# Altium footprint library RobotPcb.PcbLib: 30 footprints (part 2 of 2)
Each footprint in its own frame and in the unit in brackets; x right, y up, seen from the top. Pads: shape width x height; smd on the part's side, far side on the other; paste and mask are expansions set on the pad; w line width, h text height; cw(c..) or ccw(c..) is an arc to the next point about the centre after c.
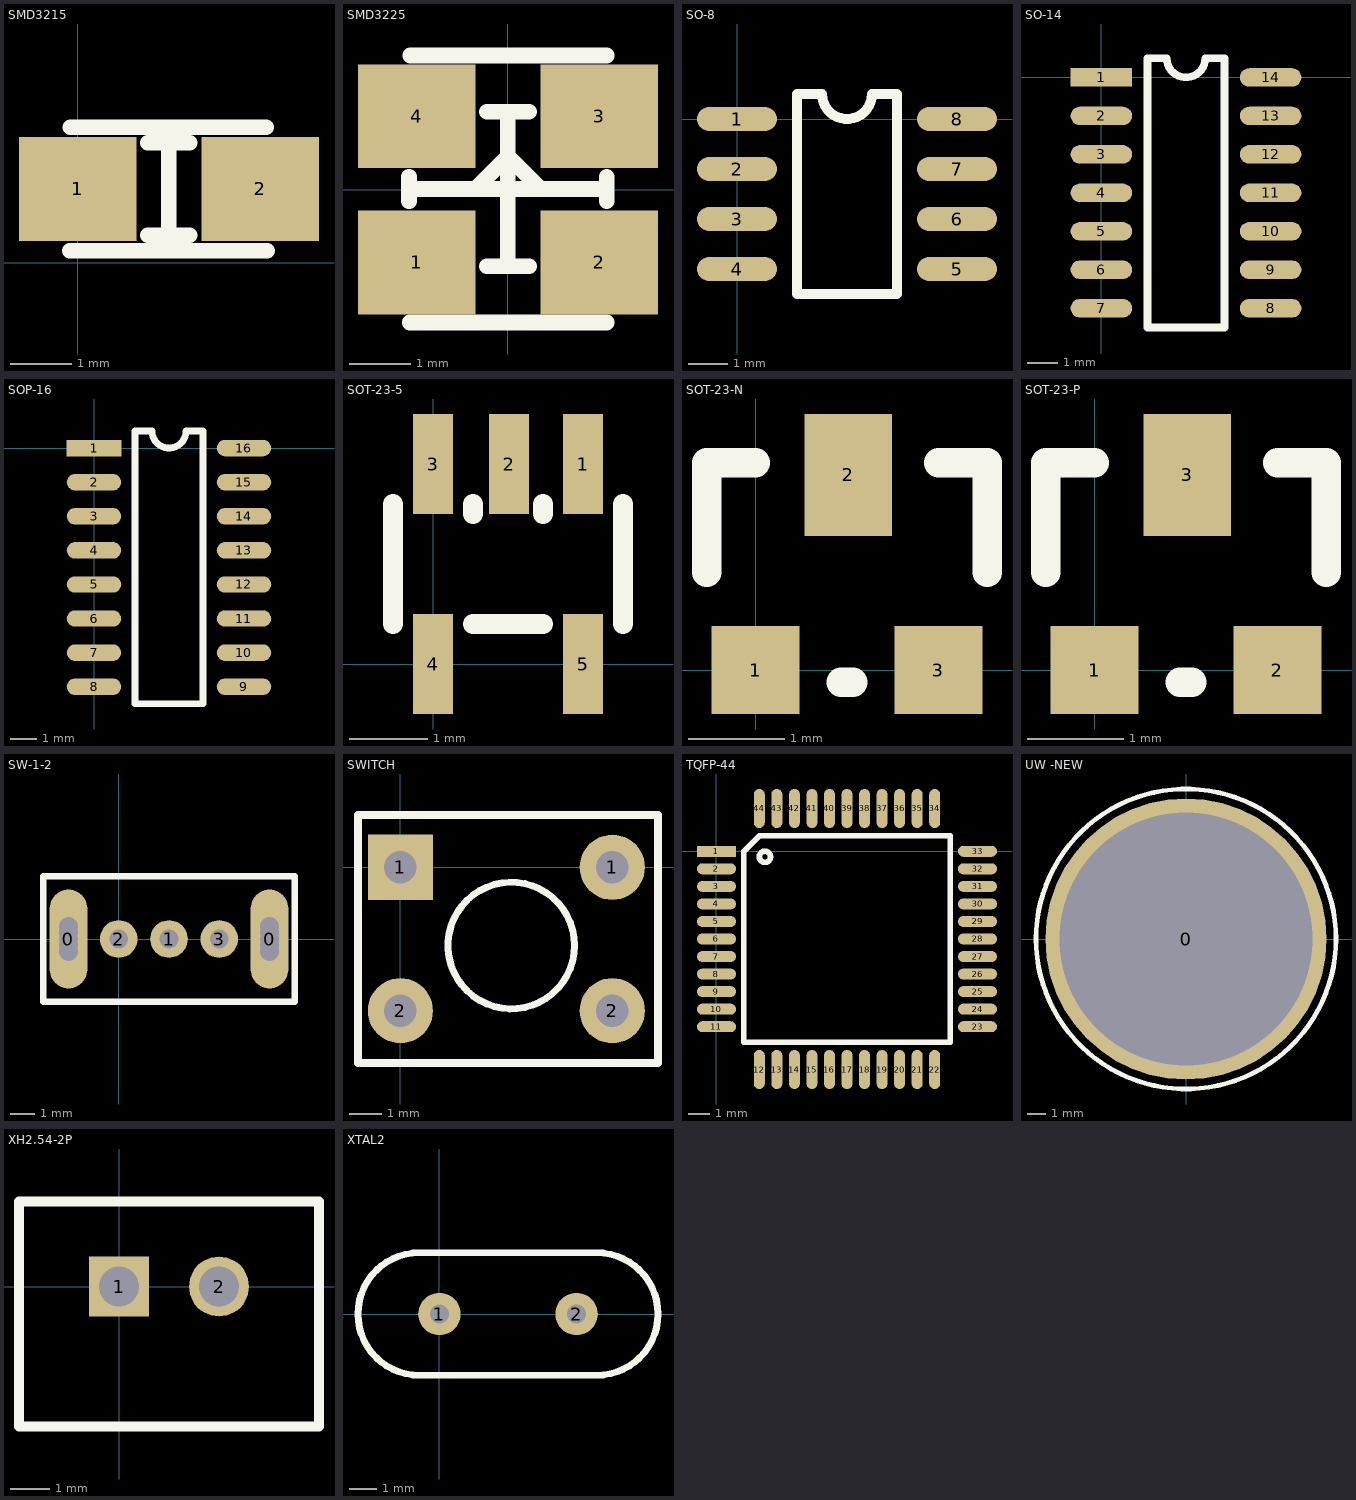
[diagram p1: the footprints below, top view; thin cyan lines are the x and y axes]

## SMD3215 [mm]
pads (2):
  rect 1.905x1.676 smd: 1(0,1.19) 2(2.95,1.19)
Top Overlay:
  lines w0.254: -0.13,0.19 3.06,0.19 ; -0.12,2.19 3.05,2.19 ; 1.13,1.94 1.47,1.94 ; 1.133,0.44 1.473,0.44 ; 1.47,1.189 1.47,1.94 ; 1.473,1.19 1.473,0.44 ; 1.81,1.94 1.47,1.94 ; 1.813,0.44 1.473,0.44 ; 1.473,1.719 1.473,1.719

## SMD3225 [mil]
pads (4):
  rect 75x66 smd: 1(-57.98,-46.42) 2(58.12,-46.42) 3(58.12,46.78) 4(-57.98,46.78)
Top Overlay:
  lines w10: -62.99,-7.48 -62.99,0.39 ; -62.99,8.27 -62.99,0.39 ; -62.6,-84.65 62.99,-84.65 ; -20.87,0.39 0,21.26 ; -13.39,-48.82 0,-48.82 ; -13.39,49.61 0,49.61 ; -11.81,0.39 62.99,0.39 ; 0,12.2 0,-48.82 ; 13.39,-48.82 0,-48.82 ; 13.39,49.61 0,49.61 ; 20.87,0.39 0,21.26 ; 62.6,85.43 -62.2,85.43 62.99,85.43 ; 62.99,-7.48 62.99,0.39 ; 62.99,8.27 62.99,0.39 ; -62.99,0.39 0,0.39 0,49.61 ; 0,21.26 0,21.26

## SO-8 [mil]
pads (8):
  oval 80x24 smd: 1(0,0) 2(0,-50) 3(0,-100) 4(0,-150) 5(220,-150) 6(220,-100) 7(220,-50) 8(220,0)
Top Overlay:
  lines w10: 60,-175 60,25 85,25 ccw(c110,25) 135,25 160,25 160,-175 60,-175

## SO-14 [mil]
pads (14):
  rect 80x24 smd: 1(0,0)
  oval 80x24 smd: 2(0,-50) 3(0,-100) 4(0,-150) 5(0,-200) 6(0,-250) 7(0,-300) 8(220,-300) 9(220,-250) 10(220,-200) 11(220,-150) 12(220,-100) 13(220,-50) 14(220,0)
Top Overlay:
  lines w10: 60,-325 160,-325 160,25 135,25 cw(c110,25) 85,25 60,25 60,-325

## SOP-16 [mil]
pads (16):
  rect 80x24 smd: 1(0,0)
  oval 80x24 smd: 2(0,-50) 3(0,-100) 4(0,-150) 5(0,-200) 6(0,-250) 7(0,-300) 8(0,-350) 9(220,-350) 10(220,-300) 11(220,-250) 12(220,-200) 13(220,-150) 14(220,-100) 15(220,-50) 16(220,0)
Top Overlay:
  lines w10: 60,-375 60,25 85,25 ccw(c110,25) 135,25 160,25 160,-375 60,-375

## SOT-23-5 [mil]
pads (5):
  rect 20x50 smd: 1(75,100) 2(38,100) 3(0,100) 4(0,0) 5(75,0)
Top Overlay:
  lines w10: -20,20 -20,80 ; 20,20 55,20 ; 20,75 20,80 ; 55,75 55,80 ; 95,20 95,80

## SOT-23-N [mil]
pads (3):
  rect 36x36 smd: 1(0,0) 3(75,0)
  rect 36x50 smd: 2(38,80)
Top Overlay:
  lines w12: -20,40 -20,85 0,85 ; 35,-5 40,-5 ; 75,85 95,85 95,40

## SOT-23-P [mil]
pads (3):
  rect 36x36 smd: 1(0,0) 2(75,0)
  rect 36x50 smd: 3(38,80)
Top Overlay:
  lines w12: -20,40 -20,85 0,85 ; 35,-5 40,-5 ; 75,85 95,85 95,40

## SW-1-2 [mil]
pads (5):
  oval 60x157.48 hole 30: 0(-80,0) 0(240,0)
  round 60 hole 30: 1(80,0) 2(0,0) 3(160,0)
via -80,-10 diameter 30 hole 30
via -80,10 diameter 30 hole 30
via -80,-20 diameter 30 hole 30
via -80,20 diameter 30 hole 30
via 240,-10 diameter 30 hole 30
via 240,10 diameter 30 hole 30
via 240,-20 diameter 30 hole 30
via 240,20 diameter 30 hole 30
Top Overlay:
  lines w10: -120,-100 -120,100 280,100 280,-100 -120,-100

## SWITCH [mm]
pads (4):
  rect 2x2 hole 1: 1(0,0)
  round 2 hole 1: 1(6.5,0) 2(0,-4.4) 2(6.5,-4.4)
Top Overlay:
  circle w0.212: c3.4,-2.4 r1.942
  lines w0.254: -1.3,-6 -1.3,1.6 7.9,1.6 7.9,-6 -1.2,-6

## TQFP-44 [mm]
pads (44):
  rect 1.778x0.5 smd: 1(0,0)
  oval 1.778x0.5 smd: 2(0,-0.8) 3(0,-1.6) 4(0,-2.4) 5(0,-3.2) 6(0,-4) 7(0,-4.8) 8(0,-5.6) 9(0,-6.4) 10(0,-7.2) 11(0,-8) 23(11.9,-8) 24(11.9,-7.2) 25(11.9,-6.4) 26(11.9,-5.6) 27(11.9,-4.8) 28(11.9,-4) 29(11.9,-3.2) 30(11.9,-2.4) 31(11.9,-1.6) 32(11.9,-0.8) 33(11.9,0)
  oval 0.5x1.778 smd: 12(1.95,-9.95) 13(2.75,-9.95) 14(3.55,-9.95) 15(4.35,-9.95) 16(5.15,-9.95) 17(5.95,-9.95) 18(6.75,-9.95) 19(7.55,-9.95) 20(8.35,-9.95) 21(9.15,-9.95) 22(9.95,-9.95) 34(9.95,1.95) 35(9.15,1.95) 36(8.35,1.95) 37(7.55,1.95) 38(6.75,1.95) 39(5.95,1.95) 40(5.15,1.95) 41(4.35,1.95) 42(3.55,1.95) 43(2.75,1.95) 44(1.95,1.95)
Top Overlay:
  circle w0.254: c2.209,-0.254 r0.255
  lines w0.25: 1.25,-8.7 10.65,-8.7 10.65,0.7
  lines w0.254: 1.25,-8.7 1.25,0 1.95,0.7 10.65,0.7

## UW -NEW [mm]
pads (1):
  round 15 hole 13.5: 0(0,0)
Top Overlay:
  circle w0.254: c0,0 r8.001

## XH2.54-2P [mil]
pads (2):
  rect 60x60 hole 40: 1(0,0)
  round 60 hole 40: 2(100,0)
Top Overlay:
  lines w10: -100,-140 200,-140 200,85 -100,85 -100,-140

## XTAL2 [mil]
pads (2):
  round 62 hole 28: 1(0,0) 2(200,0)
Top Overlay:
  lines w10: -35,-89.35 235,-89.35 ; -29.53,-89.37 cw(c-29.53,0) -29.53,89.37 ; -29.53,89.3 230.53,89.3 ; 229.53,-89.37 ccw(c229.53,0) 229.53,89.37